# Altium footprint library PcbLib.PcbLib: 21 footprints (part 2 of 2)
Each footprint in its own frame and in the unit in brackets; x right, y up, seen from the top. Pads: shape width x height; smd on the part's side, far side on the other; paste and mask are expansions set on the pad; w line width, h text height; cw(c..) or ccw(c..) is an arc to the next point about the centre after c.
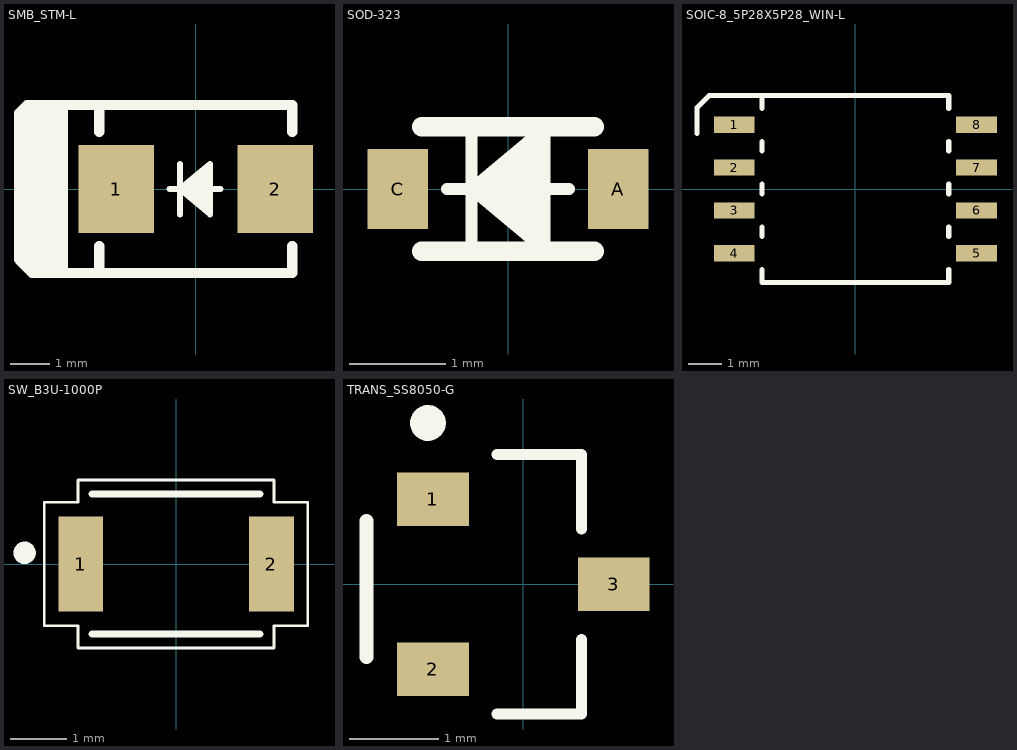
[diagram p1: the footprints below, top view; thin cyan lines are the x and y axes]

## SMB_STM-L [mil]
pads (2):
  rect 74.75x87 smd paste+0 mask+0: 1(-78.53,0) 2(78.53,0)
Top Overlay:
  rectangle: -171,-80.5 -131.25,79
  lines w6: -25.74,-0.08 24.26,-0.08 ; -15.74,-25.08 -15.74,24.92 ; 14.26,-20.08 -15.74,-0.08 ; 14.26,-15.08 -15.74,-0.08 ; 14.26,-10.08 -15.74,-0.08 ; 14.26,-5.08 -15.74,-0.08 ; 14.26,4.92 -15.74,-0.08 ; 14.26,9.92 -15.74,-0.08 ; 14.26,14.92 -15.74,-0.08 ; 14.26,19.92 -15.74,-0.08 ; -15.74,-0.08 14.26,24.92 14.26,-25.08 -15.74,-0.08
  lines w10: -131.25,83 -131.25,-80.5 -128.75,-83 -95.5,-83 ; -95.5,-56.6 -95.5,-83 ; -95.5,56.6 -95.5,83 ; 95.5,-56.6 95.5,-83 -95.5,-83 ; 95.5,56.6 95.5,83 -95.5,83 ; -95.5,-83 -162,-83 -175,-70 -175,75 -167,83 -95.5,83
3D body "SMB_STM.step": height 104.09, standoff 0.07, extent -110,-77.99 110,77.99

## SOD-323 [mm]
pads (2):
  rect 0.63x0.83 smd: A(1.15,0) C(-1.15,0)
Top Overlay:
  lines w0.127: -0.635,0 0.635,0 ; -0.381,-0.635 -0.381,0.635 ; 0.381,-0.508 -0.381,0 ; 0.381,-0.381 -0.381,0 ; 0.381,-0.254 -0.381,0 ; 0.381,-0.127 -0.381,0 ; 0.381,0.127 -0.381,0 ; 0.381,0.254 -0.381,0 ; 0.381,0.381 -0.381,0 ; 0.381,0.508 -0.381,0 ; -0.381,0 0.381,-0.635 0.381,0.635 -0.381,0
  lines w0.203: -0.9,-0.65 -0.5,-0.65 0.9,-0.65 ; -0.9,0.65 -0.5,0.65 0.9,0.65
3D body "step_temp.STEP": height 1.17, standoff 0, extent -1.25,-0.64 1.25,0.64

## SOIC-8_5P28X5P28_WIN-L [mil]
pads (8):
  rect 47.75x19 smd paste+0 mask+0: 1(-141.53,75) 2(-141.53,25) 3(-141.53,-25) 4(-141.53,-75) 5(141.53,-75) 6(141.53,-25) 7(141.53,25) 8(141.53,75)
Top Overlay:
  lines w6: -185,65 -185,95 -171,109 -109,109 ; -109,-94.33 -109,-109 109,-109 109,-94.33 ; -109,-55.67 -109,-44.33 ; -109,-5.67 -109,5.67 ; -109,44.33 -109,55.67 ; -109,94.33 -109,109 ; 109,-55.67 109,-44.33 ; 109,-5.67 109,5.67 ; 109,44.33 109,55.67 ; 109,94.33 109,109 -109,109
3D body "SOIC-8_5P28X5P28_WIN.step": height 85.12, standoff 0, extent -159.49,-104.02 159.49,104.02

## SW_B3U-1000P [mm]
pads (2):
  rect 0.8x1.7 smd: 1(-1.7,0) 2(1.7,0)
Top Overlay:
  circle w0.2: c-2.7,0.2 r0.1
  lines w0.05: -2.35,-1.1 -2.35,1.1 -1.75,1.1 -1.75,1.5 1.75,1.5 1.75,1.1 2.35,1.1 2.35,-1.1 1.75,-1.1 1.75,-1.5 -1.75,-1.5 -1.75,-1.1 -2.35,-1.1
  lines w0.127: -1.5,-1.25 1.5,-1.25 ; -1.5,1.25 1.5,1.25
3D body "B3U-1000P.STEP": height 1.76, standoff 0.01, extent -2,-1.25 2,1.25

## TRANS_SS8050-G [mm]
height 1.05
pads (3):
  rect 0.8x0.6 smd: 1(-1.01,0.95) 2(-1.01,-0.95) 3(1.01,0)
Top Overlay:
  circle w0.2: c-1.067,1.803 r0.1
  lines w0.127: -0.29,-1.45 0.65,-1.45 0.65,-0.62 ; -0.29,1.45 0.65,1.45 0.65,0.62
  lines w0.152: -1.753,-0.813 -1.753,0.711
3D body "SS8050-G--3DModel-STEP-1.STEP": height 1.16, standoff 0.01, extent -1.2,-1.448 1.2,1.448